# Altium footprint library 545482071.PcbLib: 1 footprints
Each footprint in its own frame and in the unit in brackets; x right, y up, seen from the top. Pads: shape width x height; smd on the part's side, far side on the other; paste and mask are expansions set on the pad; w line width, h text height; cw(c..) or ccw(c..) is an arc to the next point about the centre after c.
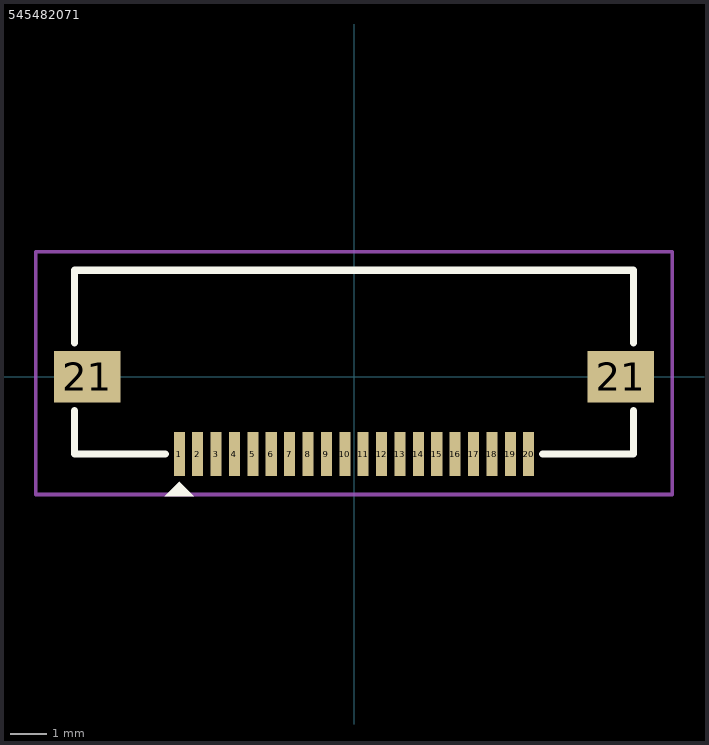
[diagram p0: the footprint, top view; thin cyan lines are the x and y axes]

## 545482071 [mm]
pads (22):
  rect 0.3x1.2 smd: 1(-4.75,-2.1) 2(-4.25,-2.1) 3(-3.75,-2.1) 4(-3.25,-2.1) 5(-2.75,-2.1) 6(-2.25,-2.1) 7(-1.75,-2.1) 8(-1.25,-2.1) 9(-0.75,-2.1) 10(-0.25,-2.1) 11(0.25,-2.1) 12(0.75,-2.1) 13(1.25,-2.1) 14(1.75,-2.1) 15(2.25,-2.1) 16(2.75,-2.1) 17(3.25,-2.1) 18(3.75,-2.1) 19(4.25,-2.1) 20(4.75,-2.1)
  rect 1.8x1.4 smd: 21(-7.25,0) 21(7.25,0)
Top Overlay:
  region: -4.35,-3.25 -5.15,-3.25 -4.75,-2.85
  lines w0.2: -7.6,-0.925 -7.6,-2.1 -5.125,-2.1 ; -7.6,0.925 -7.6,2.9 7.6,2.9 7.6,0.925 ; 5.125,-2.1 7.6,-2.1 7.6,-0.925
Top Courtyard:
  lines w0.1: -8.65,-3.2 8.65,-3.2 8.65,3.4 -8.65,3.4 -8.65,-3.2
3D body "545482071.stp": height 1.18, standoff -0.02, extent -7.6,-2.1 7.6,2.9